# EAGLE library part G5V-2-H1_48DC (library G5V-2-H1_48DC)
Relay DPDT PCB ultra sensitive, 1A 48Vdc Omron DPDT PCB Mount Non-Latching Relay, 48V dc Coil <https://componentsearchengine.com/Images/3/G5V-2-H1+48DC.jpg> Source: Datasheet <http://uk.rs-online.com/web/p/products/6839270>
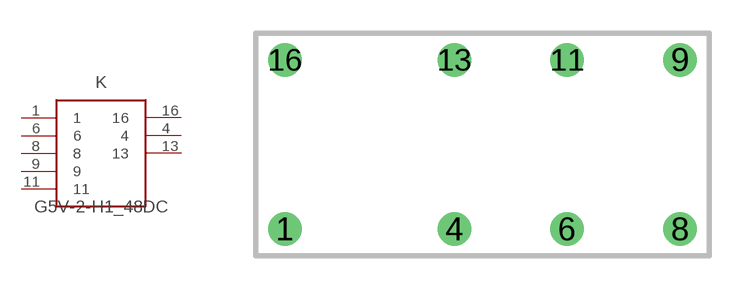
[diagram p0: symbol with the pads of G5V-2-H1; footprint G5V-2-H1]

Designator prefix K

## G5V-2-H1_48DC (DESCRIPTION: Relay DPDT PCB ultra sensitive, 1A 48Vdc Omron DPDT PCB Mount Non-Latching Relay, 48V dc Coil; HEIGHT: mm; MANUFACTURER_NAME: Omron Electronics; MANUFACTURER_PART_NUMBER: G5V-2-H1 48DC; RS_PART_NUMBER: 6839270P; SUPPLIER_NAME: RS)  [G5V-2-H1]
1  1  pas
4  4  pas
6  6  pas
8  8  pas
9  9  pas
11  11  pas
13  13  pas
16  16  pas

## Footprint G5V-2-H1 (pad centres in mm)
G5V-2-H1
drill 1 pad 1.5: 1 -8.89,-3.81; 4 -1.27,-3.81; 6 3.81,-3.81; 8 8.89,-3.81; 9 8.89,3.81; 11 3.81,3.81; 13 -1.27,3.81; 16 -8.89,3.81